# EAGLE library part DS90CR287 (library LVDS)
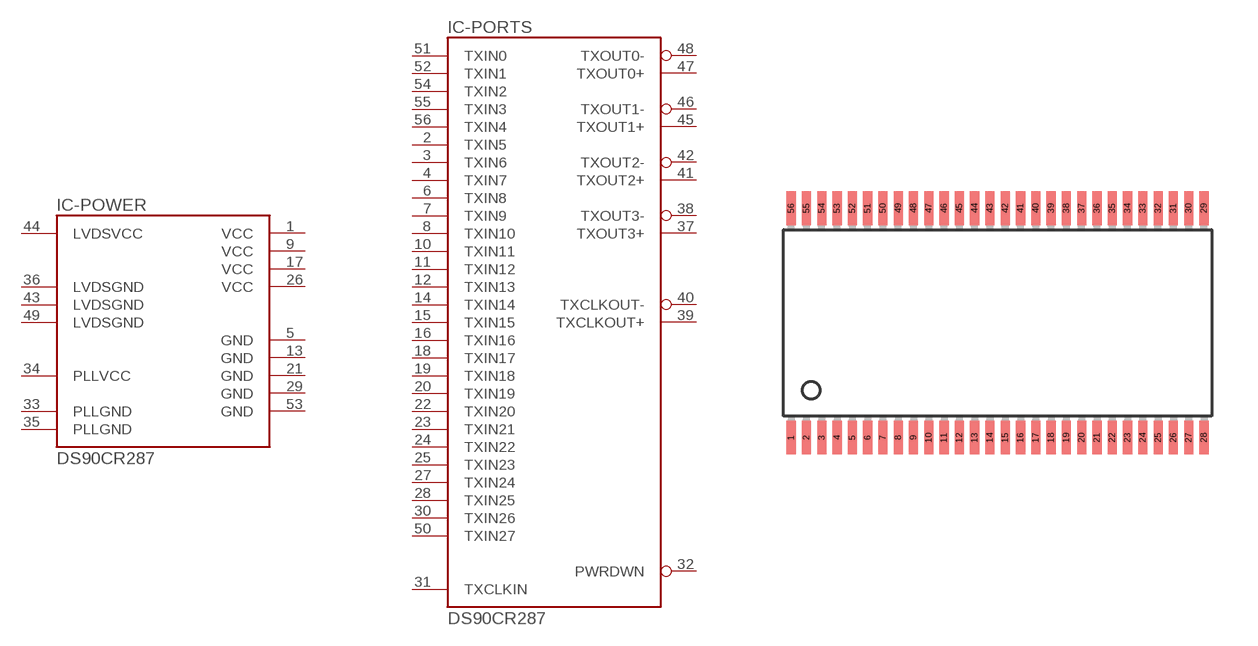
[diagram p3: symbol with the pads of HTSSOP56; footprint HTSSOP56]

Designator prefix IC; gates -POWER=DS90CR288POWER -PORTS=DS90CR287

## DS90CR287  [HTSSOP56]
1  -POWER:VCC
2  -PORTS:TXIN5
3  -PORTS:TXIN6
4  -PORTS:TXIN7
5  -POWER:GND
6  -PORTS:TXIN8
7  -PORTS:TXIN9
8  -PORTS:TXIN10
9  -POWER:VCC
10  -PORTS:TXIN11
11  -PORTS:TXIN12
12  -PORTS:TXIN13
13  -POWER:GND
14  -PORTS:TXIN14
15  -PORTS:TXIN15
16  -PORTS:TXIN16
17  -POWER:VCC
18  -PORTS:TXIN17
19  -PORTS:TXIN18
20  -PORTS:TXIN19
21  -POWER:GND
22  -PORTS:TXIN20
23  -PORTS:TXIN21
24  -PORTS:TXIN22
25  -PORTS:TXIN23
26  -POWER:VCC
27  -PORTS:TXIN24
28  -PORTS:TXIN25
29  -POWER:GND
30  -PORTS:TXIN26
31  -PORTS:TXCLKIN
32  -PORTS:PWRDWN
33  -POWER:PLLGND
34  -POWER:PLLVCC
35  -POWER:PLLGND
36  -POWER:LVDSGND
37  -PORTS:TXOUT3+
38  -PORTS:TXOUT3-
39  -PORTS:TXCLKOUT+
40  -PORTS:TXCLKOUT-
41  -PORTS:TXOUT2+
42  -PORTS:TXOUT2-
43  -POWER:LVDSGND
44  -POWER:LVDSVCC
45  -PORTS:TXOUT1+
46  -PORTS:TXOUT1-
47  -PORTS:TXOUT0+
48  -PORTS:TXOUT0-
49  -POWER:LVDSGND
50  -PORTS:TXIN27
51  -PORTS:TXIN0
52  -PORTS:TXIN1
53  -POWER:GND
54  -PORTS:TXIN2
55  -PORTS:TXIN3
56  -PORTS:TXIN4

## Footprint HTSSOP56 (pad centres in mm)
smd 0.3 x 1.1: 1 -6.75,-3.75; 2 -6.25,-3.75; 3 -5.75,-3.75; 4 -5.25,-3.75; 5 -4.75,-3.75; 6 -4.25,-3.75; 7 -3.75,-3.75; 8 -3.25,-3.75; 9 -2.75,-3.75; 10 -2.25,-3.75; 11 -1.75,-3.75; 12 -1.25,-3.75; 13 -0.75,-3.75; 14 -0.25,-3.75; 15 0.25,-3.75; 16 0.75,-3.75; 17 1.25,-3.75; 18 1.75,-3.75; 19 2.25,-3.75; 20 2.75,-3.75; 21 3.25,-3.75; 22 3.75,-3.75; 23 4.25,-3.75; 24 4.75,-3.75; 25 5.25,-3.75; 26 5.75,-3.75; 27 6.25,-3.75; 28 6.75,-3.75; 29 6.75,3.75; 30 6.25,3.75; 31 5.75,3.75; 32 5.25,3.75; 33 4.75,3.75; 34 4.25,3.75; 35 3.75,3.75; 36 3.25,3.75; 37 2.75,3.75; 38 2.25,3.75; 39 1.75,3.75; 40 1.25,3.75; 41 0.75,3.75; 42 0.25,3.75; 43 -0.25,3.75; 44 -0.75,3.75; 45 -1.25,3.75; 46 -1.75,3.75; 47 -2.25,3.75; 48 -2.75,3.75; 49 -3.25,3.75; 50 -3.75,3.75; 51 -4.25,3.75; 52 -4.75,3.75; 53 -5.25,3.75; 54 -5.75,3.75; 55 -6.25,3.75; 56 -6.75,3.75